# Altium schematic symbol library CON1 - 380-10-101-00-002000.SchLib: 2 symbols
Pins are listed as number, name and electrical type; pins without a type are passive.

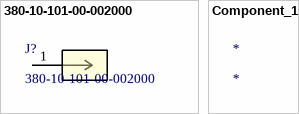
[diagram p0: symbols 380-10-101-00-002000 to Component_1]

## 380-10-101-00-002000
designator J?
No Description Available; Mfr_Name: Mill-Max; Copyright: Copyright (C) 2022 Ultra Librarian. All rights reserved.; Manufacturer_Part_Number: 380-10-101-00-002000; Digi-Key_Part_Number_1: ED10251-ND; RefDes: RefDes; Type: DEV
footprint CONN_380-10-101-00-002000_MIM
pins: 1

## Component_1
designator *